# Altium footprint library PCB_LIB2.PcbLib: 25 footprints (part 2 of 2)
Each footprint in its own frame and in the unit in brackets; x right, y up, seen from the top. Pads: shape width x height; smd on the part's side, far side on the other; paste and mask are expansions set on the pad; w line width, h text height; cw(c..) or ccw(c..) is an arc to the next point about the centre after c.
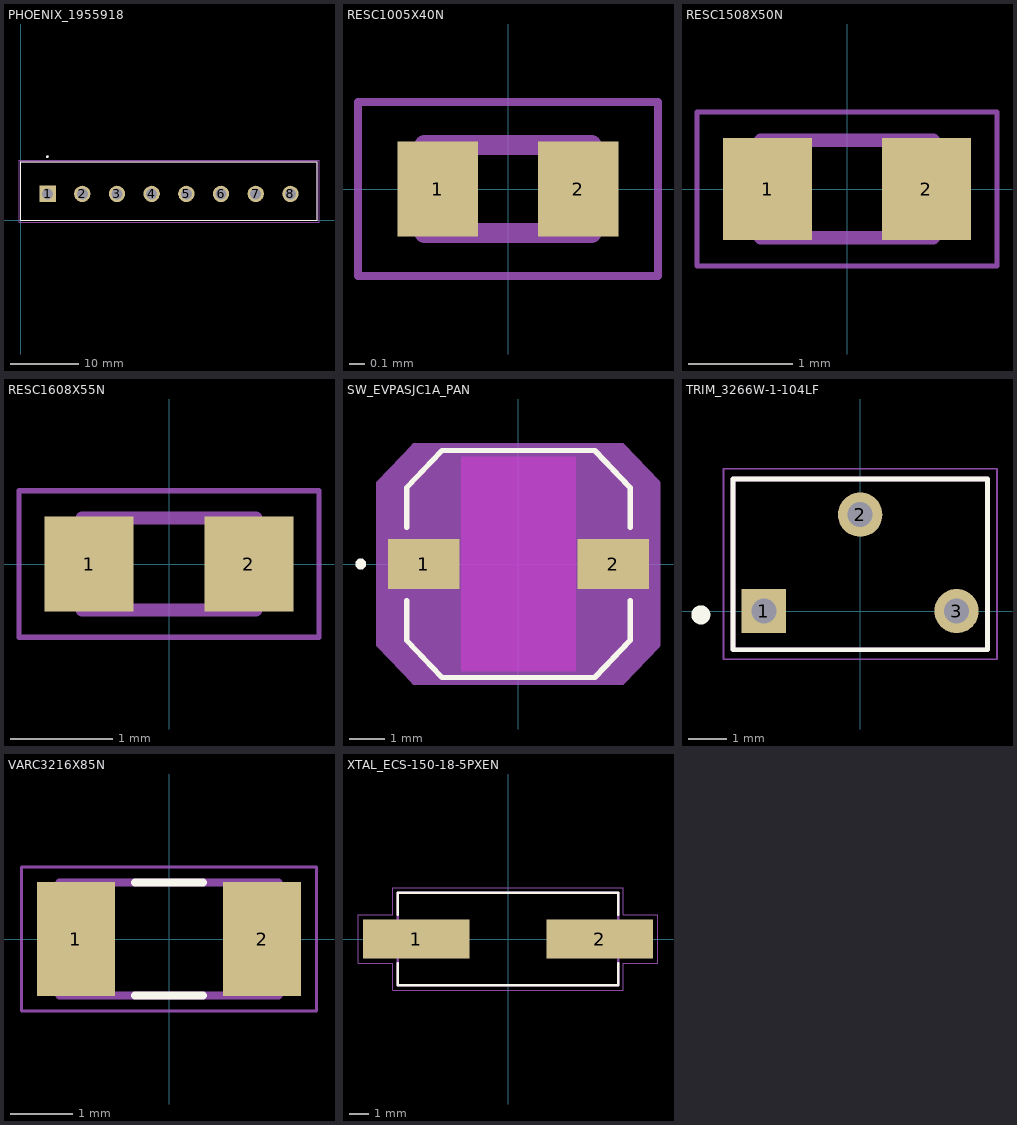
[diagram p1: the footprints below, top view; thin cyan lines are the x and y axes]

## PCBComponent_1 [mil]

## PHOENIX_1955918 [mm]
pads (8):
  rect 2.4x2.4 / inner round 2.4 / far side rect 2.4x2.4 hole 1.6: 1(3.94,3.87)
  round 2.4 hole 1.6: 2(9.02,3.87) 3(14.1,3.87) 4(19.18,3.87) 5(24.26,3.87) 6(29.34,3.87) 7(34.42,3.87) 8(39.5,3.87)
Top Overlay:
  circle w0.2: c3.9,9.32 r0.1
  lines w0.127: 0,0 0,8.57 43.44,8.57 43.44,0 0,0
Mechanical 13:
  circle w0.2: c3.9,9.32 r0.1
  lines w0.127: 0,0 0,8.57 43.44,8.57 43.44,0 0,0
Mechanical 15:
  lines w0.05: -0.25,-0.25 43.69,-0.25 43.69,8.82 -0.25,8.82 -0.25,-0.25

## RESC1005X40N [mm]
pads (2):
  rect 0.51x0.6 smd: 1(-0.445,0) 2(0.445,0)
Mechanical 13:
  lines w0.127: -0.53,-0.28 0.53,-0.28 0.53,0.28 -0.53,0.28 -0.53,-0.28
Mechanical 15:
  lines w0.05: -0.95,-0.55 0.95,-0.55 0.95,0.55 -0.95,0.55 -0.95,-0.55
3D body "step_temp.STEP": height 0.4, standoff 0, extent -0.5,-0.25 0.5,0.25

## RESC1508X50N [mm]
pads (2):
  rect 0.86x0.98 smd: 1(-0.765,0) 2(0.765,0)
Mechanical 13:
  lines w0.127: -0.83,-0.47 -0.83,0.47 0.83,0.47 0.83,-0.47 -0.83,-0.47
Mechanical 15:
  lines w0.05: -1.444,-0.74 -1.444,0.74 1.444,0.74 1.444,-0.74 -1.444,-0.74
3D body "step_temp.STEP": height 0.55, standoff 0, extent -0.775,-0.425 0.775,0.425

## RESC1608X55N [mm]
pads (2):
  rect 0.87x0.93 smd: 1(-0.78,0) 2(0.78,0)
Mechanical 13:
  lines w0.127: -0.85,-0.45 0.85,-0.45 0.85,0.45 -0.85,0.45 -0.85,-0.45
Mechanical 15:
  lines w0.05: -1.465,-0.715 1.465,-0.715 1.465,0.715 -1.465,0.715 -1.465,-0.715

## SW_EVPASJC1A_PAN [mm]
pads (2):
  rect 2x1.397 smd paste+0 mask+0: 1(-2.65,0) 2(2.65,0)
Top Layer keep-out:
  region: -1.599,-2.997 -1.599,2.997 1.599,2.997 1.599,-2.997
Top Overlay:
  circle w0.152: c-4.412,0 r0.076
  lines w0.152: -3.127,-1.031 -3.127,-2.134 -2.134,-3.175 2.134,-3.175 3.127,-2.134 3.127,-1.031 ; -3.127,1.031 -3.127,2.134 -2.134,3.175 2.134,3.175 3.127,2.134 3.127,1.031
  text ".Designator" at -3.492,-0.635 h1.27
Mechanical 13:
  circle w0.025: c-2.619,0 r0.076
  lines w0.025: -3,-2.007 -3,2.007 -2.007,3.048 2.007,3.048 3,2.007 3,-2.007 2.007,-3.048 -2.007,-3.048 -3,-2.007
  text ".Designator" at -3.492,-0.635 h1.27
Mechanical 15:
  region: -3.904,-2.261 -3.904,2.261 -2.911,3.302 2.911,3.302 3.904,2.261 3.904,-2.261 2.911,-3.302 -2.911,-3.302
  lines w0.152: -3.904,-2.261 -2.911,-3.302 2.911,-3.302 3.904,-2.261 3.904,2.261 2.911,3.302 -2.911,3.302 -3.904,2.261 -3.904,-2.261
3D body "SW_EVPASJC1A_PAN.step": height 5.31, standoff 0, extent -3.305,-3.048 3.305,3.048

## TRIM_3266W-1-104LF [mm]
pads (3):
  rect 1.168x1.168 hole 0.66: 1(-2.54,0)
  round 1.168 hole 0.66: 2(0,2.54) 3(2.54,0)
Top Overlay:
  circle w0.3: c-4.2,-0.1 r0.1
  lines w0.127: -3.355,-1.02 3.355,-1.02 3.355,3.48 -3.355,3.48 -3.355,-1.02
Mechanical 13:
  lines w0.127: -3.355,-1.02 -3.355,3.48 3.355,3.48 3.355,-1.02 -3.355,-1.02
Mechanical 15:
  lines w0.05: -3.605,-1.27 -3.605,3.75 3.605,3.75 3.605,-1.27 -3.605,-1.27
3D body "step_temp.STEP": height 4.64, standoff -9.5, extent -3.355,-0.98 3.355,3.52

## VARC3216X85N [mm]
pads (2):
  rect 1.24x1.82 smd: 1(-1.485,0) 2(1.485,0)
Top Overlay:
  lines w0.127: -0.54,-0.9 0.54,-0.9 ; -0.54,0.9 0.54,0.9
Mechanical 13:
  lines w0.127: -1.75,-0.9 -1.75,0.9 1.75,0.9 1.75,-0.9 -1.75,-0.9
Mechanical 15:
  lines w0.05: -2.355,-1.15 -2.355,1.15 2.355,1.15 2.355,-1.15 -2.355,-1.15
3D body "step_temp.STEP": height 0.88, standoff 0, extent -1.6,-0.8 1.6,0.8

## XTAL_ECS-150-18-5PXEN [mm]
pads (2):
  rect 5.5x2 smd: 1(-4.75,0) 2(4.75,0)
Top Overlay:
  lines w0.127: -5.7,-1.254 -5.7,-2.4 5.7,-2.4 5.7,-1.254 ; -5.7,1.254 -5.7,2.4 5.7,2.4 5.7,1.254
Mechanical 13:
  lines w0.127: -5.7,-2.4 -5.7,2.4 5.7,2.4 5.7,-2.4 -5.7,-2.4
Mechanical 15:
  lines w0.05: -7.75,-1.25 -5.95,-1.25 -5.95,-2.65 5.95,-2.65 5.95,-1.25 7.75,-1.25 7.75,1.25 5.95,1.25 5.95,2.65 -5.95,2.65 -5.95,1.25 -7.75,1.25 -7.75,-1.25